# Altium footprint library qinxie.PcbLib: 2 footprints
Each footprint in its own frame and in the unit in brackets; x right, y up, seen from the top. Pads: shape width x height; smd on the part's side, far side on the other; paste and mask are expansions set on the pad; w line width, h text height; cw(c..) or ccw(c..) is an arc to the next point about the centre after c.
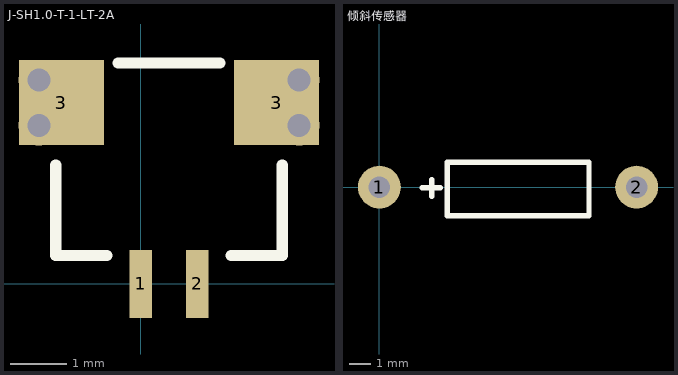
[diagram p0: the footprints below, top view; thin cyan lines are the x and y axes]

## J-SH1.0-T-1-LT-2A [mm]
pads (4):
  rect 0.4x1.2 smd: 1(0,0) 2(1,0)
  rect 1.5x1.5 smd: 3(-1.4,3.2) 3(2.4,3.2)
via -1.8,2.8 diameter 0.711 hole 0.406
via -1.8,3.6 diameter 0.711 hole 0.406
via 2.8,3.6 diameter 0.711 hole 0.406
via 2.8,2.8 diameter 0.711 hole 0.406
Top Overlay:
  lines w0.2: -1.5,2.1 -1.5,0.5 -0.6,0.5 ; -0.4,3.9 1.4,3.9 ; 1.6,0.5 2.5,0.5 2.5,2.1

## 倾斜传感器 [mm]
height 6
pads (2):
  round 2 hole 1: 1(0,0) 2(12,0)
Top Overlay:
  lines w0.254: 2.007,-0.025 2.845,-0.025 ; 2.438,-0.432 2.438,0.356 ; 3.175,-1.346 3.175,1.168 9.779,1.168 9.779,-1.346 3.175,-1.346